# Altium footprint library PcbLib.PcbLib: 19 footprints (part 1 of 2)
Each footprint in its own frame and in the unit in brackets; x right, y up, seen from the top. Pads: shape width x height; smd on the part's side, far side on the other; paste and mask are expansions set on the pad; w line width, h text height; cw(c..) or ccw(c..) is an arc to the next point about the centre after c.
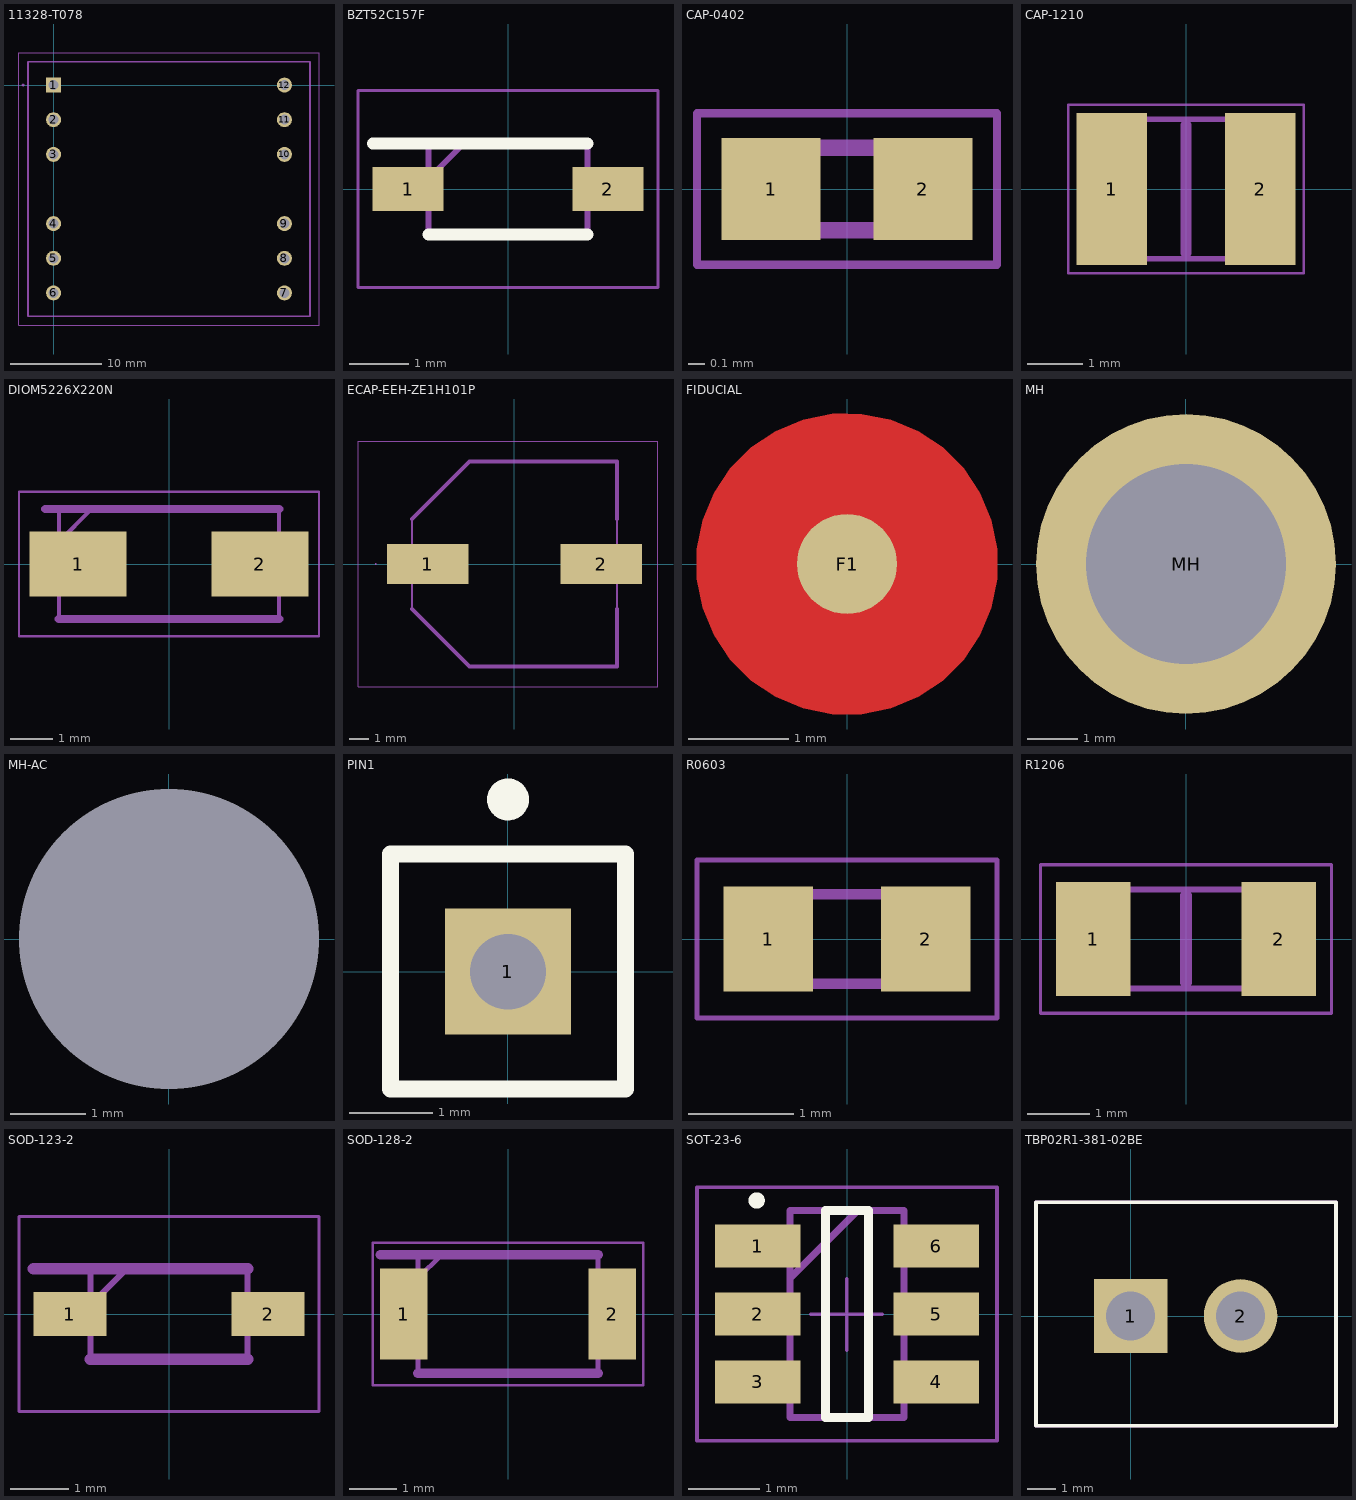
[diagram p0: the footprints below, top view; thin cyan lines are the x and y axes]

## 11328-T078 [mm]
pads (12):
  rect 1.65x1.65 / inner round 1.524 / far side rect 1.65x1.65 hole 1.1: 1(0,0)
  round 1.65 hole 1.1: 2(0,-3.81) 3(0,-7.62) 4(0,-15.24) 5(0,-19.05) 6(0,-22.86) 7(25.4,-22.86) 8(25.4,-19.05) 9(25.4,-15.24) 10(25.4,-7.62) 11(25.4,-3.81) 12(25.4,0)
Bottom Assembly:
  lines w0.1: -3.8,-26.43 -3.8,3.57 29.2,3.57 29.2,-26.43 -3.8,-26.43 ; -2.8,-25.43 -2.8,2.57 28.2,2.57 28.2,-25.43 -2.8,-25.43
Mechanical 7:
  lines w0.2: -3.4,0 cw(c-3.35,0) -3.3,0 ; -3.4,0 ccw(c-3.35,0) -3.3,0 ; -3.4,0 -3.3,0 ; -2.8,-25.43 -2.8,2.57 28.2,2.57 28.2,-25.43 -2.8,-25.43
3D body "PQ-26-20_6+6_tx.step": height 5.1, standoff -21.54, extent -2.195,-25.014 27.305,2.286

## BZT52C157F [mm]
pads (2):
  rect 1.2x0.75 smd: 1(-1.7,0) 2(1.7,0)
Top Overlay:
  lines w0.2: -2.3,0.775 1.35,0.775 ; -1.35,-0.775 1.35,-0.775
Mechanical 15:
  lines w0.1: -1.35,0.175 -0.75,0.775 ; -1.35,-0.775 1.35,-0.775 1.35,0.775 -1.35,0.775 -1.35,-0.775
Mechanical 20:
  lines w0.05: -2.55,-1.675 2.55,-1.675 2.55,1.675 -2.55,1.675 -2.55,-1.675
3D body "BZT52C15-7-F.stp": height 1.45, standoff 0, extent -1.977,-0.735 1.723,0.815

## CAP-0402 [mm]
pads (2):
  rect 0.6x0.62 smd: 1(-0.46,0) 2(0.46,0)
Bottom Assembly:
  lines w0.05: -0.91,-0.46 0.91,-0.46 0.91,0.46 -0.91,0.46 -0.91,-0.46
  lines w0.1: -0.5,-0.25 0.5,-0.25 0.5,0.25 -0.5,0.25 -0.5,-0.25

## CAP-1210 [mm]
pads (2):
  rect 1.26x2.72 smd: 1(-1.33,0) 2(1.33,0)
Bottom Assembly:
  lines w0.05: -2.11,-1.51 -2.11,1.51 2.11,1.51 2.11,-1.51 -2.11,-1.51
  lines w0.1: -1.6,-1.25 -1.6,1.25 1.6,1.25 1.6,-1.25 -1.6,-1.25
Mechanical 7:
  lines w0.2: 0,-1.15 0,1.15
3D body "CAP1210.STEP": height 1.5, standoff 0, extent -1.749,-1.3 1.651,1.3

## DIOM5226X220N [mm]
pads (2):
  rect 2.3x1.55 smd: 1(-2.15,0) 2(2.15,0)
Bottom Assembly:
  lines w0.05: -3.55,-1.71 -3.55,1.71 3.55,1.71 3.55,-1.71 -3.55,-1.71
  lines w0.1: -2.605,0.528 -1.83,1.302 ; -2.605,-1.302 -2.605,1.302 2.605,1.302 2.605,-1.302 -2.605,-1.302
Mechanical 7:
  lines w0.2: -2.925,1.302 2.605,1.302 ; -2.605,-1.302 2.605,-1.302
3D body "DO-214AC.STEP": height 2.29, standoff -0.01, extent -2.51,-1.33 2.69,1.27

## ECAP-EEH-ZE1H101P [mm]
pads (2):
  rect 4.1x2 smd: 1(-4.35,0) 2(4.35,0)
Bottom Assembly:
  lines w0.05: -7.85,-6.15 -7.85,6.15 7.2,6.15 7.2,-6.15 -7.85,-6.15
  lines w0.1: -5.15,2.25 -2.25,5.15 ; -5.15,2.25 -5.15,-2.25 -2.25,-5.15 5.15,-5.15 5.15,5.15 -2.25,5.15 ; -5.15,2.25 -2.25,5.15
Mechanical 7:
  lines w0.05: -6.975,0 cw(c-6.95,0) -6.925,0 cw(c-6.95,0) -6.975,0
  lines w0.2: -5.15,-2.25 -2.25,-5.15 5.15,-5.15 5.15,-2.25 ; -5.15,2.25 -2.25,5.15 4.5,5.15 5.15,5.15 5.15,2.25
3D body "PanasonicRadialCanSizeE.STEP": height 6.2, standoff -0.05, extent -4.246,-4.15 4.754,4.15

## FIDUCIAL [mm] "1MM FIDUCAL MARKER"
pads (1):
  round 1 smd paste-1 mask+0.5: F1(0,0)
Top Layer:
  pour cut-out: -1.5,0 -1.5,-0.148 -1.442,-0.438 -1.329,-0.711 -1.165,-0.956 -0.956,-1.165 -0.711,-1.329 -0.438,-1.442 -0.148,-1.5 0,-1.5 0.148,-1.5 0.438,-1.442 0.711,-1.329 0.956,-1.165 1.165,-0.956 1.329,-0.711 1.442,-0.438 1.5,-0.148 1.5,0 1.5,0.148 1.442,0.438 1.329,0.711 1.165,0.956 0.956,1.165 0.711,1.329 0.438,1.442 0.148,1.5 0,1.5 -0.148,1.5 -0.438,1.442 -0.711,1.329 -0.956,1.165 -1.165,0.956 -1.329,0.711 -1.442,0.438 -1.5,0.148

## MH [mm]
pads (1):
  round 6 hole 4 mask+0.1: MH(0,0)

## MH-AC [mm]
pads (1):
  round 0 hole 4 unplated mask+0.1: MH(0,0)

## PIN1 [mm] "Connector; Plug"
pads (1):
  rect 1.5x1.5 hole 0.9: 1(0,0)
Top Overlay:
  circle w0.25: c0,2.05 r0.125
  lines w0.2: -1.4,-1.4 1.4,-1.4 1.4,1.4 -1.4,1.4 -1.4,-1.4

## R0603 [mm]
pads (2):
  rect 0.85x1 smd: 1(-0.75,0) 2(0.75,0)
Bottom Assembly:
  lines w0.05: -1.425,-0.75 1.425,-0.75 1.425,0.75 -1.425,0.75 -1.425,-0.75
  lines w0.1: -0.788,-0.425 0.788,-0.425 0.788,0.425 -0.788,0.425 -0.788,-0.425
3D body "Resistor_0603_Ohm.step": height 0.47, standoff 0.01, extent -0.87,-0.419 0.73,0.381

## R1206 [mm]
pads (2):
  rect 1.2x1.85 smd: 1(-1.5,0) 2(1.5,0)
Bottom Assembly:
  lines w0.05: -2.35,-1.2 2.35,-1.2 2.35,1.2 -2.35,1.2 -2.35,-1.2
  lines w0.1: -1.6,-0.8 1.6,-0.8 1.6,0.8 -1.6,0.8 -1.6,-0.8
Mechanical 7:
  lines w0.2: 0,-0.7 0,0.7
3D body "Resistor_SMD_0,25W_1206.stp": height 0.85, standoff 0, extent -1.6,-0.8 1.6,0.8

## SOD-123-2 [mm]
pads (2):
  rect 1.25x0.75 smd: 1(-1.7,0) 2(1.7,0)
Bottom Assembly:
  lines w0.05: -2.575,-1.675 -2.575,1.675 2.575,1.675 2.575,-1.675 -2.575,-1.675
  lines w0.1: -1.35,0.15 -0.725,0.775 ; -1.35,-0.775 -1.35,0.775 1.35,0.775 1.35,-0.775 -1.35,-0.775
Mechanical 7:
  lines w0.2: -2.325,0.775 1.35,0.775 ; -1.35,-0.775 1.35,-0.775
3D body "SOD-123.step": height 1.36, standoff 0, extent -1.925,-0.85 1.925,0.85

## SOD-128-2 [mm]
pads (2):
  rect 1x1.93 smd: 1(-2.2,0) 2(2.2,0)
Bottom Assembly:
  lines w0.05: -2.85,-1.5 -2.85,1.5 2.85,1.5 2.85,-1.5 -2.85,-1.5
  lines w0.1: -1.9,0.75 -1.4,1.25 ; -1.9,-1.25 -1.9,1.25 1.9,1.25 1.9,-1.25 -1.9,-1.25
Mechanical 7:
  lines w0.2: -2.7,1.25 1.9,1.25 ; -1.9,-1.25 1.9,-1.25
3D body "SOD-128 (CFP5) marking pin 1.stp": height 1.1, standoff 0, extent -2.627,-1.354 2.373,1.346

## SOT-23-6 [mm]
pads (6):
  rect 1.2x0.6 smd: 1(-1.25,0.95) 2(-1.25,0) 3(-1.25,-0.95) 4(1.25,-0.95) 5(1.25,0) 6(1.25,0.95)
Top Overlay:
  circle w0.127: c-1.265,1.589 r0.05
  lines w0.127: -0.3,-1.45 -0.3,1.45 0.3,1.45 0.3,-1.45 -0.3,-1.45
Mechanical 13:
  lines w0.1: -0.8,0.5 0.15,1.45 ; -0.8,-1.45 -0.8,1.45 0.8,1.45 0.8,-1.45 -0.8,-1.45
Mechanical 15:
  lines w0.05: -0.504,-0.006 0.496,-0.006 ; -0.004,-0.506 -0.004,0.494 ; -2.1,-1.775 -2.1,1.775 2.1,1.775 2.1,-1.775 -2.1,-1.775
3D body "SN74LVC1G3157DBVR.stp": height 1.45, standoff 0, extent -1.4,-1.45 1.4,1.45

## TBP02R1-381-02BE [mm]
pads (2):
  rect 2.55x2.55 hole 1.7: 1(0,0)
  round 2.55 hole 1.7: 2(3.81,0)
Top Overlay:
  lines w0.127: -3.278,-3.798 -3.278,3.937 7.112,3.937 7.112,-3.798 -3.278,-3.798
Mechanical 15:
  lines w0.127: -3.278,-3.798 -3.278,3.937 7.112,3.937 7.112,-3.798 -3.278,-3.798
3D body "Header 3.81mm.STEP": height 7.95, standoff -3.1, extent -2.6,-8.128 6.41,1.072